# EAGLE library part AT32UC3C1 (library E-P-206-R1.2 Fuel Cell Control (Board to Board))
ATMEL 32-bit Microcontroller 64KB, 128KB, 256KB, 512KB 100-pin TQFP (81 GPIO pins) http://www.atmel.com/Images/32117s.pdf
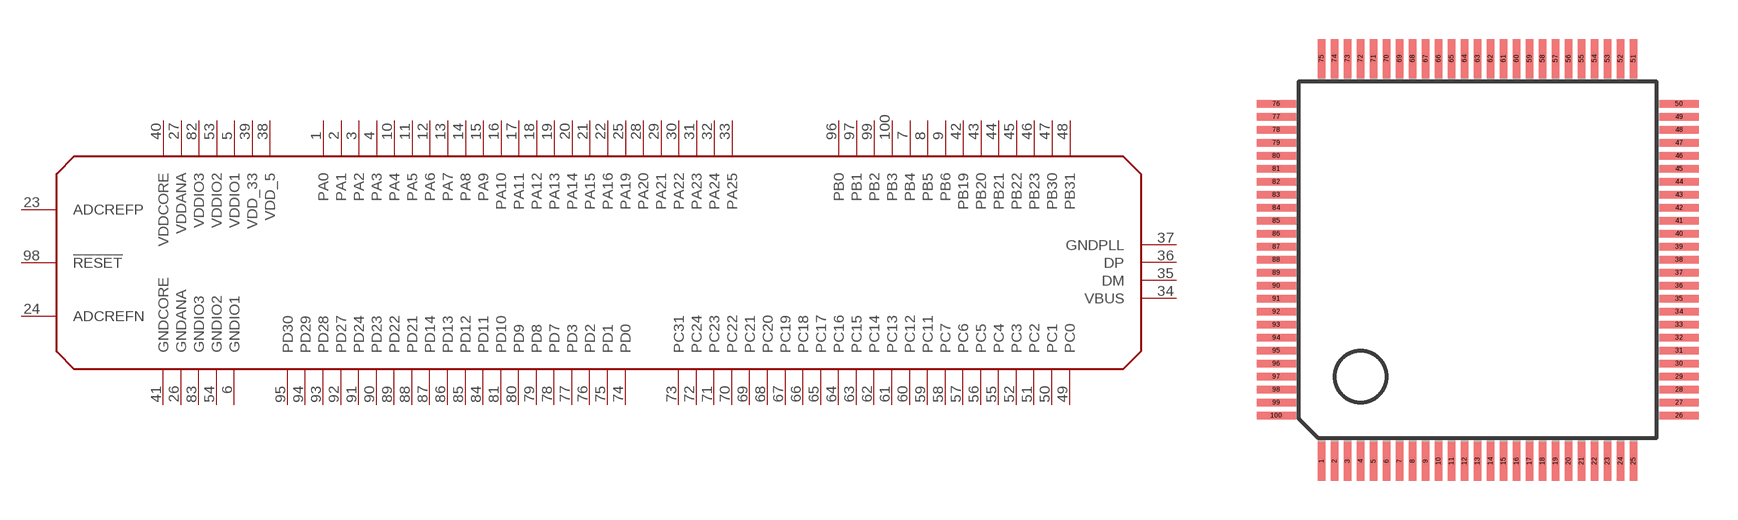
[diagram p11: symbol with the pads of TQFP100; footprint TQFP100]

Designator prefix -

## AT32UC3C1, AT32UC3C1064 (FLASH: 64KB), AT32UC3C1128 (FLASH: 128KB), AT32UC3C1256 (FLASH: 256KB), AT32UC3C1512 (FLASH: 512KB)  [TQFP100]
1  PA0
2  PA1
3  PA2
4  PA3
5  VDDIO1
6  GNDIO1
7  PB4
8  PB5
9  PB6
10  PA4
11  PA5
12  PA6
13  PA7
14  PA8
15  PA9
16  PA10
17  PA11
18  PA12
19  PA13
20  PA14
21  PA15
22  PA16
23  ADCREFP
24  ADCREFN
25  PA19
26  GNDANA
27  VDDANA
28  PA20
29  PA21
30  PA22
31  PA23
32  PA24
33  PA25
34  VBUS
35  DM
36  DP
37  GNDPLL
38  VDD_5
39  VDD_33
40  VDDCORE
41  GNDCORE
42  PB19
43  PB20
44  PB21
45  PB22
46  PB23
47  PB30
48  PB31
49  PC0
50  PC1
51  PC2
52  PC3
53  VDDIO2
54  GNDIO2
55  PC4
56  PC5
57  PC6
58  PC7
59  PC11
60  PC12
61  PC13
62  PC14
63  PC15
64  PC16
65  PC17
66  PC18
67  PC19
68  PC20
69  PC21
70  PC22
71  PC23
72  PC24
73  PC31
74  PD0
75  PD1
76  PD2
77  PD3
78  PD7
79  PD8
80  PD9
81  PD10
82  VDDIO3
83  GNDIO3
84  PD11
85  PD12
86  PD13
87  PD14
88  PD21
89  PD22
90  PD23
91  PD24
92  PD27
93  PD28
94  PD29
95  PD30
96  PB0
97  PB1
98  !RESET
99  PB2
100  PB3

## Footprint TQFP100 (pad centres in mm)
Thin Quad Flat Pack
smd 0.27 x 1.5: 1 -6,-7.75; 2 -5.5,-7.75; 3 -5,-7.75; 4 -4.5,-7.75; 5 -4,-7.75; 6 -3.5,-7.75; 7 -3,-7.75; 8 -2.5,-7.75; 9 -2,-7.75; 10 -1.5,-7.75; 11 -1,-7.75; 12 -0.5,-7.75; 13 0,-7.75; 14 0.5,-7.75; 15 1,-7.75; 16 1.5,-7.75; 17 2,-7.75; 18 2.5,-7.75; 19 3,-7.75; 20 3.5,-7.75; 21 4,-7.75; 22 4.5,-7.75; 23 5,-7.75; 24 5.5,-7.75; 25 6,-7.75; 51 6,7.75; 52 5.5,7.75; 53 5,7.75; 54 4.5,7.75; 55 4,7.75; 56 3.5,7.75; 57 3,7.75; 58 2.5,7.75; 59 2,7.75; 60 1.5,7.75; 61 1,7.75; 62 0.5,7.75; 63 0,7.75; 64 -0.5,7.75; 65 -1,7.75; 66 -1.5,7.75; 67 -2,7.75; 68 -2.5,7.75; 69 -3,7.75; 70 -3.5,7.75; 71 -4,7.75; 72 -4.5,7.75; 73 -5,7.75; 74 -5.5,7.75; 75 -6,7.75
smd 1.5 x 0.27: 26 7.75,-6; 27 7.75,-5.5; 28 7.75,-5; 29 7.75,-4.5; 30 7.75,-4; 31 7.75,-3.5; 32 7.75,-3; 33 7.75,-2.5; 34 7.75,-2; 35 7.75,-1.5; 36 7.75,-1; 37 7.75,-0.5; 38 7.75,0; 39 7.75,0.5; 40 7.75,1; 41 7.75,1.5; 42 7.75,2; 43 7.75,2.5; 44 7.75,3; 45 7.75,3.5; 46 7.75,4; 47 7.75,4.5; 48 7.75,5; 49 7.75,5.5; 50 7.75,6; 76 -7.75,6; 77 -7.75,5.5; 78 -7.75,5; 79 -7.75,4.5; 80 -7.75,4; 81 -7.75,3.5; 82 -7.75,3; 83 -7.75,2.5; 84 -7.75,2; 85 -7.75,1.5; 86 -7.75,1; 87 -7.75,0.5; 88 -7.75,0; 89 -7.75,-0.5; 90 -7.75,-1; 91 -7.75,-1.5; 92 -7.75,-2; 93 -7.75,-2.5; 94 -7.75,-3; 95 -7.75,-3.5; 96 -7.75,-4; 97 -7.75,-4.5; 98 -7.75,-5; 99 -7.75,-5.5; 100 -7.75,-6